# Altium footprint library Device.PcbLib: 66 footprints (part 2 of 5)
Each footprint in its own frame and in the unit in brackets; x right, y up, seen from the top. Pads: shape width x height; smd on the part's side, far side on the other; paste and mask are expansions set on the pad; w line width, h text height; cw(c..) or ccw(c..) is an arc to the next point about the centre after c.
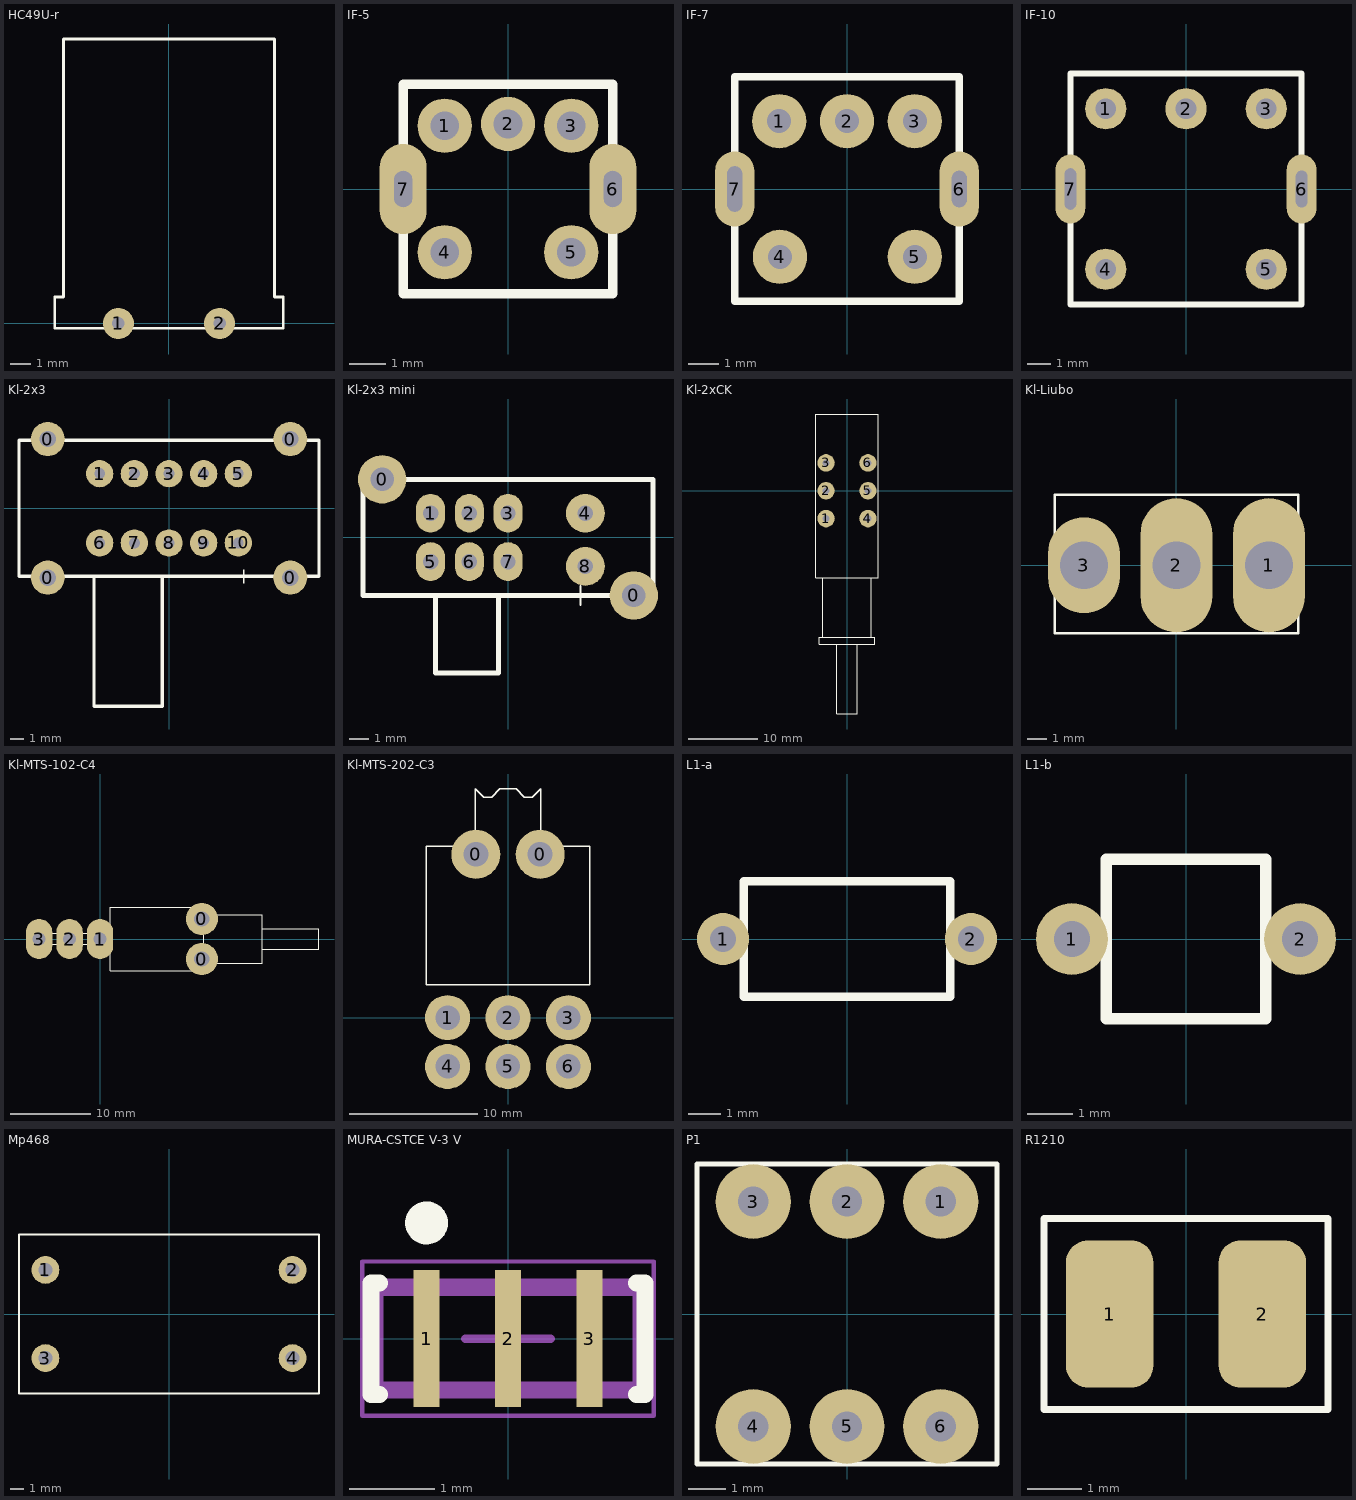
[diagram p1: the footprints below, top view; thin cyan lines are the x and y axes]

## HC49U-r [mm]
pads (2):
  round 1.5 hole 0.6: 1(-2.44,0) 2(2.44,0)
Top Overlay:
  lines w0.127: -5.5,-0.23 5.5,-0.23 5.5,1.27 5.08,1.27 5.08,13.7 -5.08,13.7 -5.08,1.27 -5.5,1.27 -5.5,-0.23
3D body: height 4.5, standoff -2.5, extent -5.5,-0.23 5.5,13.7

## IF-5 [mm]
pads (7):
  round 1.5 hole 0.8: 1(-1.75,1.75) 2(0,1.8) 3(1.75,1.75) 4(-1.75,-1.75) 5(1.75,-1.75)
  oval 1.3x2.5 hole 0.5 slot 1 at 90 deg: 6(2.9,0)
  rrect100% 1.3x2.5 hole 0.5 slot 1 at 90 deg: 7(-2.9,0)
Top Overlay:
  lines w0.254: -2.9,-2.9 -2.9,2.9 2.9,2.9 2.9,-2.9 -2.9,-2.9
3D body: height 6, standoff -2.5, extent -2.95,-2.95 2.95,2.95

## IF-7 [mm]
pads (7):
  round 1.8 hole 0.8: 1(-2.25,2.25) 2(0,2.25) 3(2.25,2.25) 4(-2.225,-2.25) 5(2.25,-2.25)
  oval 1.3x2.5 hole 0.5 slot 1.2 at 90 deg: 6(3.725,0)
  oval 1.3x2.5 hole 0.5 slot 1.5 at 90 deg: 7(-3.725,0)
Top Overlay:
  lines w0.254: -3.725,-3.725 3.725,-3.725 3.725,3.725 -3.725,3.725 -3.725,-3.725
3D body: height 9.5, standoff -2.5, extent -3.75,-3.75 3.75,3.75

## IF-10 [mm]
pads (7):
  round 1.8 hole 0.9: 1(-3.5,3.5) 2(0,3.5) 3(3.5,3.5) 4(-3.5,-3.5) 5(3.5,-3.5)
  oval 1.3x3 hole 0.5 slot 1.6 at 90 deg: 6(5.04,0)
  oval 1.3x3 hole 0.5 slot 1.8 at 90 deg: 7(-5.04,0)
Top Overlay:
  lines w0.254: -5.04,-5.04 -5.04,5.04 5.04,5.04 5.04,-5.04 -5.04,-5.04
3D body: height 13, standoff -2.5, extent -5.125,-5.125 5.125,5.125

## Kl-2x3 [mm]
pads (14):
  round 2.5 hole 1.2: 0(-8.89,-5.08) 0(-8.89,5.08) 0(8.89,-5.08) 0(8.89,5.08)
  round 2 hole 0.8: 1(-5.08,2.54) 2(-2.54,2.54) 3(0,2.54) 4(2.54,2.54) 5(5.08,2.54) 6(-5.08,-2.54) 7(-2.54,-2.54) 8(0,-2.54) 9(2.54,-2.54) 10(5.08,-2.54)
Top Overlay:
  lines w0.1: 5.5,-5.5 5.5,-4.5
  lines w0.254: -5.5,-5.08 -5.5,-14.5 -0.5,-14.5 -0.5,-5 ; -11,-5 -11,5 11,5 11,-5 -11,-5
3D body: height 8.5, standoff 5, extent -5.5,-14.5 -0.5,-5.08
3D body: height 10, standoff 0, extent -11,-5.08 11,5

## Kl-2x3 mini [mm]
pads (10):
  round 2.5 hole 1.2: 0(-6.5,3) 0(6.5,-3)
  oval 1.5x2 hole 0.8: 1(-4,1.25) 2(-2,1.25) 3(0,1.25) 5(-4,-1.25) 6(-2,-1.25) 7(0,-1.25)
  round 2 hole 0.8: 4(4,1.25) 8(4,-1.5)
Top Overlay:
  lines w0.1: 3.75,-3.5 3.75,-2.5
  lines w0.254: -3.75,-3 -3.75,-7 -0.5,-7 -0.5,-3 ; -7.5,-3 -7.5,3 7.5,3 7.5,-3 -7.5,-3
3D body: height 5, standoff 0, extent -7.5,-3 7.5,3
3D body: height 4.5, standoff 1.3, extent -3.75,-7 -0.5,-3

## Kl-2xCK [mm]
pads (6):
  round 2.5 hole 1: 1(-3,-4) 2(-3,0) 3(-3,4) 4(3,-4) 5(3,0) 6(3,4)
Top Overlay:
  lines w0.127: -3.5,-21 -3.5,-12.5 ; -1.5,-22 -1.5,-32 1.5,-32 1.5,-22 ; 3.5,-21 3.5,-12.5 ; -4.5,-12.5 4.5,-12.5 4.5,11 -4.5,11 -4.5,-12.5 ; -4,-22 -4,-21 4,-21 4,-22 -4,-22

## Kl-Liubo [mm]
pads (3):
  oval 3.75x7 hole 2.5: 1(4.826,0) 2(0,0)
  oval 3.75x5 hole 2.5: 3(-4.826,0)
Top Overlay:
  lines w0.127: -6.35,-3.556 -6.35,3.683 6.35,3.683 6.35,-3.556 -6.35,-3.556

## Kl-MTS-102-C4 [mm]
pads (5):
  round 4 hole 1.9: 0(12.7,-2.5) 0(12.7,2.5)
  oval 3.3x5 hole 1.6: 1(0,0) 2(-3.8,0) 3(-7.6,0)
Top Overlay:
  lines w0.127: 1.27,-0.635 -8.255,-0.635 -8.255,0.715 1.27,0.715 ; 12.95,-3 20.25,-3 20.25,3 12.95,3 ; 20.25,-1.27 27.305,-1.27 27.305,1.27 20.32,1.27 ; 1.27,-3.95 12.95,-3.95 12.95,3.95 1.27,3.95 1.27,-3.95
3D body: height 12.7, standoff -3.17, extent -8.001,-3.556 26.06,3.556

## Kl-MTS-202-C3 [mm]
pads (8):
  round 3.81 hole 1.93: 0(-2.5,12.7) 0(2.5,12.7)
  round 3.5 hole 1.9: 1(-4.7,0)
  round 3.5 hole 1.905: 2(0,0) 3(4.7,0) 4(-4.7,-3.8) 5(0,-3.8) 6(4.7,-3.8)
Top Overlay:
  lines w0.1: -6.35,2.54 -6.35,13.335 -2.54,13.335 -2.54,17.78 -1.905,17.145 -1.27,17.145 -0.635,17.78 0,17.78 0.635,17.78 1.27,17.145 1.905,17.145 2.54,17.78 2.54,13.335 6.35,13.335 6.35,2.54 -6.35,2.54

## L1-a [mm]
pads (2):
  round 1.6 hole 0.8: 1(-3.81,0) 2(3.81,0)
Top Overlay:
  lines w0.254: -3.81,0 -3.175,0 ; 3.175,0 3.81,0 ; -3.175,-1.778 -3.175,1.778 3.175,1.778 3.175,-1.778 -3.175,-1.778

## L1-b [mm]
pads (2):
  round 1.6 hole 0.8: 1(-2.54,0) 2(2.54,0)
Top Overlay:
  lines w0.254: -2.54,0 -1.778,0 ; 1.778,0 2.54,0 ; -1.778,-1.778 -1.778,1.778 1.778,1.778 1.778,-1.778 -1.778,-1.778

## Mp468 [mm]
pads (4):
  round 2 hole 1: 1(-8.89,3.175) 2(8.89,3.175) 3(-8.89,-3.175) 4(8.89,-3.175)
Top Overlay:
  lines w0.127: -10.795,-5.715 10.795,-5.715 10.795,5.715 -10.795,5.715 -10.795,-5.715
3D body: height 10, standoff 0, extent -10.795,-5.715 10.795,5.715

## MURA-CSTCE V-3 V [mm] "SMD, 3-Leads, Body 3.2x1.3mm, Pitch 0.95mm"
height 1
pads (3):
  rect 0.3x1.6 smd: 1(-0.95,0) 2(0,0) 3(0.95,0)
Top Overlay:
  circle w0.25: c-0.95,1.35 r0.125
  lines w0.2: -1.5,-0.65 -1.6,-0.65 -1.6,0.65 -1.5,0.65 ; 1.5,-0.65 1.6,-0.65 1.6,0.65 1.5,0.65
Mechanical 13:
  lines w0.1: -1.6,-0.65 -1.6,0.65 1.6,0.65 1.6,-0.65 -1.6,-0.65 ; -1.5,-0.55 1.5,-0.55 1.5,0.55 -1.5,0.55 -1.5,-0.55
Mechanical 15:
  lines w0.05: -1.7,-0.9 -1.7,0.9 1.7,0.9 1.7,-0.9 -1.7,-0.9
  lines w0.1: -0.5,0 0.5,0 ; 0,-0.5 0,0.5
3D body: height 0.4, standoff 0, extent -1.6,-0.65 1.6,0.65
3D body: height 1, standoff 0, extent -1.5,-0.55 1.5,0.55

## P1 [mm]
pads (6):
  round 2 hole 0.8: 1(2.5,3) 2(0,3) 3(-2.5,3) 4(-2.5,-3) 5(0,-3) 6(2.5,-3)
Top Overlay:
  lines w0.127: -4,-4 4,-4 4,4 -4,4 -4,-4
3D body: height 18.5, standoff -3.5, extent -4,-4 4,4

## R1210 [mm]
pads (2):
  rrect50% 1.6x2.7 smd: 1(-1.4,0) 2(1.4,0)
Top Overlay:
  lines w0.127: -2.6,-1.75 2.6,-1.75 2.6,1.75 -2.6,1.75 -2.6,-1.75
3D body: height 0.6, standoff 0, extent -1.6,-1.251 1.6,1.249